# Altium footprint library bspd parts.PcbLib: 32 footprints (part 2 of 2)
Each footprint in its own frame and in the unit in brackets; x right, y up, seen from the top. Pads: shape width x height; smd on the part's side, far side on the other; paste and mask are expansions set on the pad; w line width, h text height; cw(c..) or ccw(c..) is an arc to the next point about the centre after c.
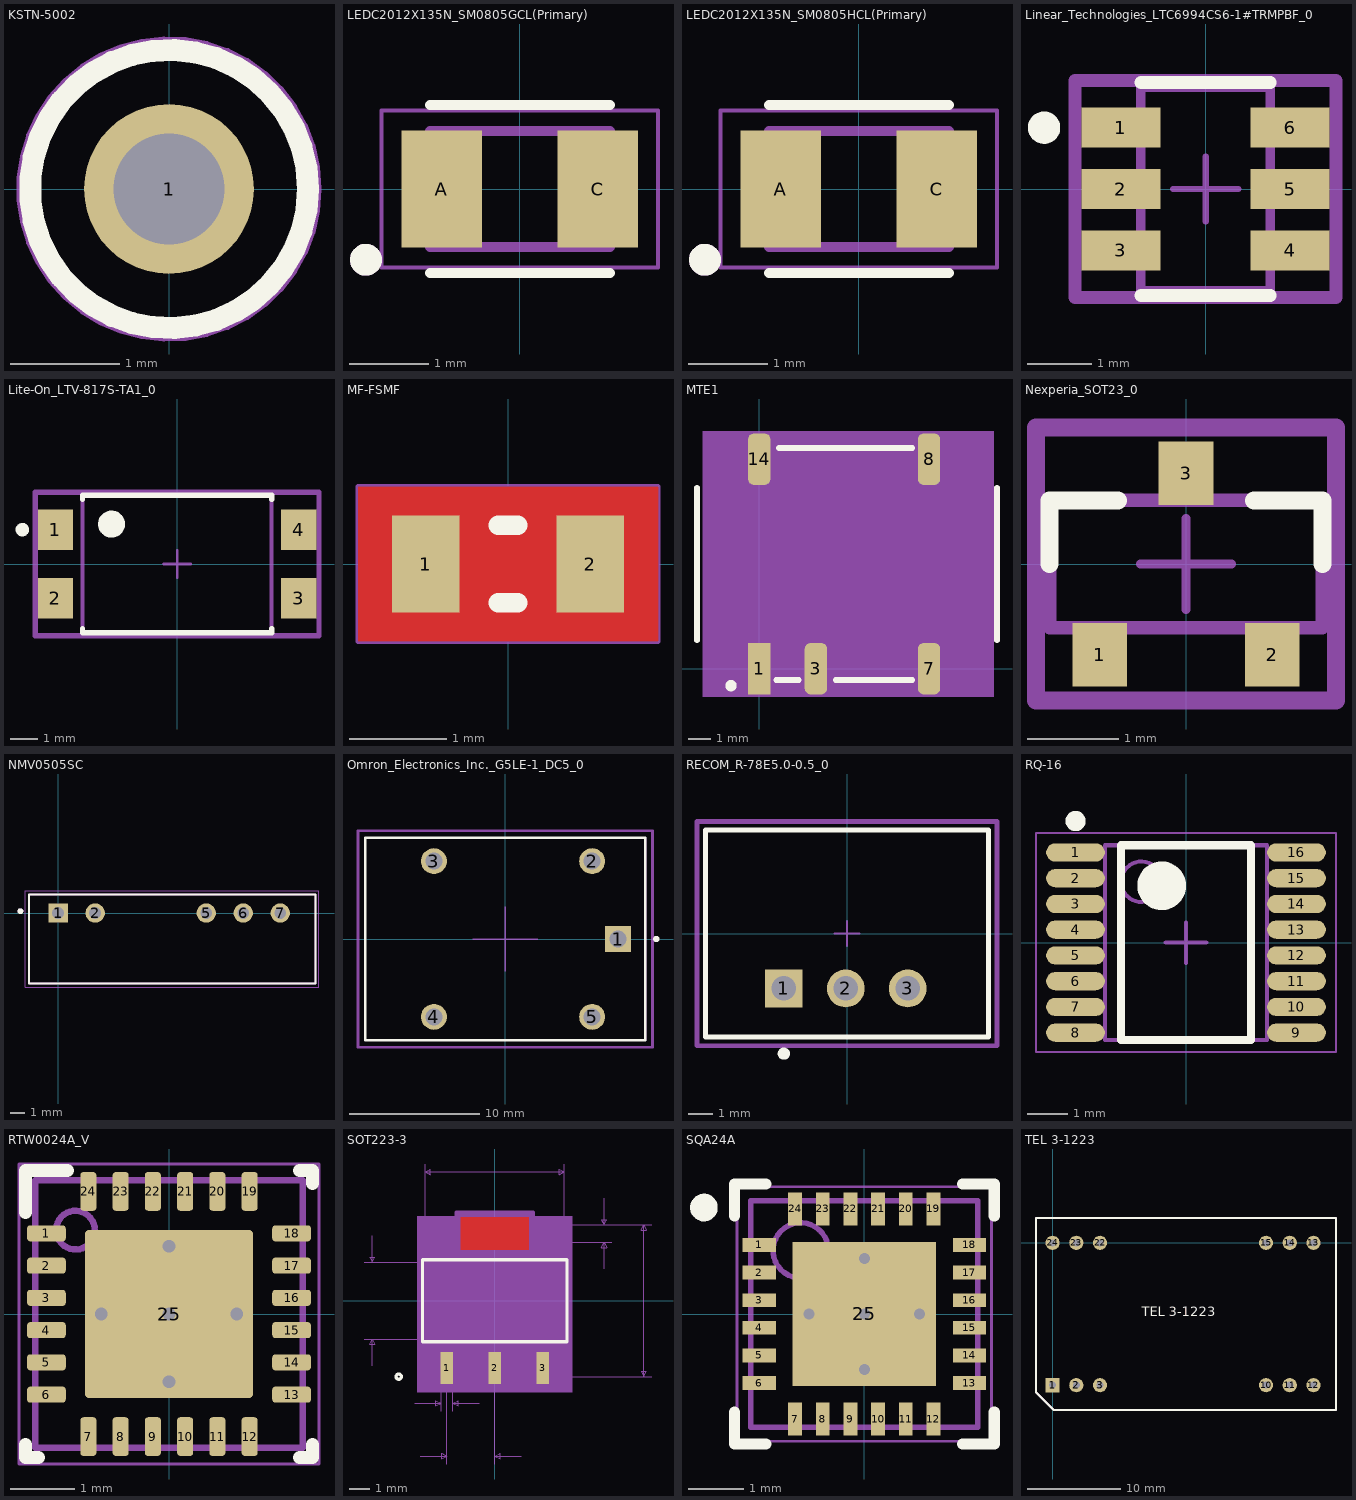
[diagram p1: the footprints below, top view; thin cyan lines are the x and y axes]

## KSTN-5002 [mm] "Test Point, Through Hole, Dia 2.54mm"
height 4.57
pads (1):
  round 1.55 hole 1.016: 1(0,0)
Top Overlay:
  circle w0.2: c0,0 r1.27
Mechanical 13:
  circle w0.1: c0,0 r1.27
Mechanical 15:
  circle w0.05: c0,0 r1.37
  lines w0.1: -0.5,0 0.5,0 ; 0,-0.5 0,0.5
3D body "Keystone_5002.stp": height 4.62, standoff -3, extent -1.254,-1.247 1.246,1.253

## LEDC2012X135N_SM0805GCL(Primary) [mm]
pads (2):
  rect 1.01x1.47 smd: A(-0.98,0) C(0.98,0)
Top Overlay:
  circle w0.2: c-1.932,-0.889 r0.1
  lines w0.127: -1.13,-1.055 1.13,-1.055 ; -1.13,1.055 1.13,1.055
Top 3D Body:
  circle w0.2: c-1.932,-0.889 r0.1
  circle w0.2: c-1.932,-0.889 r0.1
  lines w0.127: -1.13,-0.73 -1.13,0.73 ; -1.13,-0.73 1.13,-0.73 ; -1.13,-0.73 -1.13,0.73 ; -1.13,-0.73 1.13,-0.73 ; -1.13,0.73 1.13,0.73 ; -1.13,0.73 1.13,0.73 ; 1.13,-0.73 1.13,0.73 ; 1.13,-0.73 1.13,0.73
Bottom Component Outline:
  lines w0.05: -1.735,-0.985 1.735,-0.985 1.735,0.985 -1.735,0.985 -1.735,-0.985
3D body "SM0805GCL.STEP": height 1.12, standoff 0.03, extent -1.003,-0.622 1.003,0.622

## LEDC2012X135N_SM0805HCL(Primary) [mm]
pads (2):
  rect 1.01x1.47 smd: A(-0.98,0) C(0.98,0)
Top Overlay:
  circle w0.2: c-1.932,-0.889 r0.1
  lines w0.127: -1.13,-1.055 1.13,-1.055 ; -1.13,1.055 1.13,1.055
Top 3D Body:
  circle w0.2: c-1.932,-0.889 r0.1
  circle w0.2: c-1.932,-0.889 r0.1
  lines w0.127: -1.13,-0.73 -1.13,0.73 ; -1.13,-0.73 1.13,-0.73 ; -1.13,-0.73 -1.13,0.73 ; -1.13,-0.73 1.13,-0.73 ; -1.13,0.73 1.13,0.73 ; -1.13,0.73 1.13,0.73 ; 1.13,-0.73 1.13,0.73 ; 1.13,-0.73 1.13,0.73
Bottom Component Outline:
  lines w0.05: -1.735,-0.985 1.735,-0.985 1.735,0.985 -1.735,0.985 -1.735,-0.985
3D body "SM0805XXC.STEP": height 1.12, standoff 0.03, extent -1.003,-0.622 1.003,0.622

## Linear_Technologies_LTC6994CS6-1#TRMPBF_0 [mm]
pads (6):
  rect 1.22x0.62 smd paste+0 mask+0: 1(-1.31,0.95) 2(-1.31,0) 3(-1.31,-0.95) 4(1.31,-0.95) 5(1.31,0) 6(1.31,0.95)
Top Overlay:
  circle w0.25: c-2.5,0.95 r0.125
  lines w0.2: -1.002,-1.647 1.002,-1.647 ; -1.002,1.647 1.002,1.647
Top Component Outline:
  lines w0.15: -1.002,-1.577 -1.002,1.577 1.002,1.577 1.002,-1.577 -1.002,-1.577
Top Courtyard:
  lines w0.2: -2.02,-1.677 2.02,-1.677 2.02,1.677 -2.02,1.677 -2.02,-1.677
Mechanical 10:
  text ".Designator" at 0,0 h1
Mechanical 15:
  lines w0.1: -0.503,0 0.503,0 ; 0,-0.503 0,0.503
  lines w0.2: -2.02,-1.677 -2.02,1.677 2.02,1.677 2.02,-1.677 -2.02,-1.677
3D body "IC_Linear_Technologies_LTC6994CS6-1#TRMPBF_eec.STEP": height 0.96, standoff -0.04, extent -1.412,-1.443 1.412,1.457

## Lite-On_LTV-817S-TA1_0 [mm]
pads (4):
  rect 1.3x1.5 smd paste+0 mask+0: 1(-4.5,1.27) 2(-4.5,-1.27) 3(4.5,-1.27) 4(4.5,1.27)
Top Overlay:
  circle w0.25: c-5.725,1.27 r0.125
  circle w0.5: c-2.425,1.475 r0.25
  lines w0.2: -3.5,-2.395 -3.5,-2.55 3.5,-2.55 3.5,-2.395 ; -3.5,2.395 -3.5,2.55 3.5,2.55 3.5,2.395
Mechanical 10:
  lines w0.2: -5.25,-2.65 5.25,-2.65 5.25,2.65 -5.25,2.65 -5.25,-2.65
  text ".Designator" at 0,0 h1
Mechanical 12:
  lines w0.15: -3.5,-2.55 3.5,-2.55 3.5,2.55 -3.5,2.55 -3.5,-2.55
Mechanical 15:
  lines w0.1: -0.5,0 0.5,0 ; 0,-0.5 0,0.5
  lines w0.2: -5.25,-2.65 5.25,-2.65 5.25,2.65 -5.25,2.65 -5.25,-2.65
3D body "IC_Lite-On_LTV-817S-TA1_eec.STEP": height 0.25, standoff 0, extent -5.25,-2.65 5.25,2.65

## MF-FSMF [mm] "MF-FSMF Series - PTC Resettable Fuse"
height 0.65
pads (2):
  rect 0.7x1 smd: 1(-0.85,0) 2(0.85,0)
Top Layer:
  pour cut-out: -1.55,0.8 1.55,0.8 1.55,-0.8 -1.55,-0.8
Bottom Layer:
  pour cut-out: -1.55,0.8 1.55,0.8 1.55,-0.8 -1.55,-0.8
Top Overlay:
  lines w0.2: -0.1,-0.4 0.1,-0.4 ; -0.1,0.4 0.1,0.4
Top Assembly:
  lines w0.1: -0.925,-0.525 0.925,-0.525 0.925,0.525 -0.925,0.525 -0.925,-0.525
Top Courtyard:
  lines w0.05: -1.55,-0.8 1.55,-0.8 1.55,0.8 -1.55,0.8 -1.55,-0.8
  lines w0.1: -0.5,0 0.5,0 ; 0,-0.5 0,0.5
3D body "mf-fsmf010x.stp": height 0.48, standoff 0, extent -0.825,-0.425 0.825,0.425

## MTE1 [mm]
pads (5):
  rect 1x2.3 smd: 1(0,0)
  rrect50% 1x2.3 smd: 3(2.54,0) 7(7.62,0) 8(7.62,9.4) 14(0,9.4)
Top Overlay:
  circle w0.254: c-1.27,-0.762 r0.127
  lines w0.254: -2.794,1.27 -2.794,8.128 ; 0.762,-0.508 1.778,-0.508 ; 0.889,9.906 6.858,9.906 ; 3.429,-0.508 6.858,-0.508 ; 10.668,1.27 10.668,8.128
Top Courtyard:
  rectangle: -2.54,-1.27 10.541,10.668
3D body: height 3.52, standoff -3.52, extent 2.159,2.794 2.159,2.794
3D body "mps_dcdc_mte1s_mc_a.step": height 7.07, standoff 0, extent -2.54,-0.801 10.16,10.199

## Nexperia_SOT23_0 [mm]
pads (3):
  rect 0.6x0.7 smd paste-1000 mask+0: 1(-0.95,-1) 2(0.95,-1) 3(0,1)
Top Overlay:
  lines w0.2: -1.5,0 -1.5,0.7 -0.75,0.7 ; 0.75,0.7 1.5,0.7 1.5,0
Top Paste:
  rectangle: 0.7,-1.3 1.2,-0.7
  rectangle: -1.2,-1.3 -0.7,-0.7
  rectangle: -0.25,0.7 0.25,1.3
Mechanical 10:
  lines w0.2: -1.65,-1.5 -1.65,1.5 1.65,1.5 1.65,-1.5 -1.65,-1.5
  text ".Designator" at 0,0 h1
Mechanical 12:
  lines w0.15: -1.5,-0.7 -1.5,0.7 1.5,0.7 1.5,-0.7 -1.5,-0.7
Mechanical 15:
  lines w0.1: -0.5,0 0.5,0 ; 0,-0.5 0,0.5
  lines w0.2: -1.65,-1.5 -1.65,1.5 1.65,1.5 1.65,-1.5 -1.65,-1.5
3D body "Trans_Nexperia_MMBT3904,215_eec.STEP": height 0.25, standoff 0, extent -1.65,-1.5 1.65,1.5

## NMV0505SC [mm]
pads (5):
  rect 1.328x1.328 hole 0.82: 1(0,0)
  round 1.328 hole 0.82: 2(2.54,0) 5(10.16,0) 6(12.7,0) 7(15.24,0)
Top Overlay:
  circle w0.2: c-2.59,0.13 r0.1
  lines w0.127: -2,-4.826 -2,1.27 17.65,1.27 17.65,-4.826 -2,-4.826
Top 3D Body:
  circle w0.2: c-2.59,0.13 r0.1
  circle w0.2: c-2.59,0.13 r0.1
  lines w0.127: -2,-4.826 -2,1.27 ; -2,-4.826 17.65,-4.826 ; -2,-4.826 -2,1.27 ; -2,-4.826 17.65,-4.826 ; -2,1.27 17.65,1.27 ; -2,1.27 17.65,1.27 ; 17.65,-4.826 17.65,1.27 ; 17.65,-4.826 17.65,1.27
Bottom Component Outline:
  lines w0.05: -2.25,-5.08 -2.25,1.52 17.9,1.52 17.9,-5.08 -2.25,-5.08
3D body "mps_dcdc_nmv_sc_a.step": height 10.04, standoff -4.06, extent -1.88,-4.77 17.62,1.25

## Omron_Electronics_Inc._G5LE-1_DC5_0 [mm]
pads (5):
  rect 2x2 hole 1.3 paste-1000 mask+0: 1(8.7,0)
  round 2 hole 1.3 paste-1000 mask+0: 2(6.7,6) 3(-5.5,6) 4(-5.5,-6) 5(6.7,-6)
Top Overlay:
  circle w0.25: c11.65,0 r0.125
  lines w0.2: -10.8,-7.8 -10.8,7.8 10.8,7.8 10.8,-7.8 -10.8,-7.8
Mechanical 10:
  lines w0.2: -11.35,-8.35 -11.35,8.35 11.35,8.35 11.35,-8.35 -11.35,-8.35
  text ".Designator" at 0,0 h1
Mechanical 12:
  lines w0.15: -10.8,-7.8 -10.8,7.8 10.8,7.8 10.8,-7.8 -10.8,-7.8
Mechanical 15:
  lines w0.1: -2.505,0 2.505,0 ; 0,-2.505 0,2.505
  lines w0.2: -11.35,-8.35 -11.35,8.35 11.35,8.35 11.35,-8.35 -11.35,-8.35
3D body "3dmodel.step": height 0.25, standoff 0, extent -11.35,-8.35 11.35,8.35

## RECOM_R-78E5.0-0.5_0 [mm]
pads (3):
  rect 1.55x1.55 hole 1 paste-1000 mask+0: 1(-2.59,-2.25)
  round 1.55 hole 1 paste-1000 mask+0: 2(-0.05,-2.25) 3(2.49,-2.25)
Top Overlay:
  circle w0.25: c-2.59,-4.925 r0.125
  lines w0.2: -5.8,-4.25 -5.8,4.25 5.8,4.25 5.8,-4.25 -5.8,-4.25
Mechanical 10:
  lines w0.2: -6.15,-4.6 -6.15,4.6 6.15,4.6 6.15,-4.6 -6.15,-4.6
  text ".Designator" at 0,0 h1
Mechanical 12:
  lines w0.15: -5.8,-4.25 -5.8,4.25 5.8,4.25 5.8,-4.25 -5.8,-4.25
Mechanical 15:
  lines w0.1: -0.5,0 0.5,0 ; 0,-0.5 0,0.5
  lines w0.2: -6.15,-4.6 -6.15,4.6 6.15,4.6 6.15,-4.6 -6.15,-4.6
3D body "IC_RECOM_R-78E5.0-0.5_eec.STEP": height 10.77, standoff -2.51, extent -5.75,-4.174 5.75,3.376

## RQ-16 [mm] "SOP, 16-Leads, Body 4.90x3.91mm, Pitch 0.64mm, IPC Medium Density"
height 1.66
pads (16):
  oval 1.45x0.45 smd: 1(-2.725,2.222) 2(-2.725,1.587) 3(-2.725,0.953) 4(-2.725,0.318) 5(-2.725,-0.318) 6(-2.725,-0.953) 7(-2.725,-1.587) 8(-2.725,-2.222) 9(2.725,-2.222) 10(2.725,-1.587) 11(2.725,-0.953) 12(2.725,-0.318) 13(2.725,0.318) 14(2.725,0.953) 15(2.725,1.587) 16(2.725,2.222)
Top Overlay:
  circle w0.25: c-2.725,2.997 r0.125
  circle w0.6: c-0.6,1.4 r0.3
  lines w0.2: -1.6,-2.4 -1.6,2.4 1.6,2.4 1.6,-2.4 -1.6,-2.4
Top Assembly:
  circle w0.1: c-1.1,1.5 r0.5
  lines w0.1: -2,-2.4 -2,2.4 2,2.4 2,-2.4 -2,-2.4
Top Courtyard:
  lines w0.05: -3.7,-2.7 -3.7,2.7 3.7,2.7 3.7,-2.7 -3.7,-2.7
  lines w0.1: -0.5,0 0.5,0 ; 0,-0.5 0,0.5
3D body "RQ-16.step": height 1.65, standoff 0, extent -2.997,-2.4 2.997,2.4

## RTW0024A_V [mm] "QFN, 24-Leads, Body 4x4mm, Pitch 0.5mm, Thermal Pad 2.6x2.6mm, TI Recommended"
height 0.8
pads (25):
  rrect40% 0.6x0.25 smd: 1(-1.9,1.25) 2(-1.9,0.75) 3(-1.9,0.25) 4(-1.9,-0.25) 5(-1.9,-0.75) 6(-1.9,-1.25) 13(1.9,-1.25) 14(1.9,-0.75) 15(1.9,-0.25) 16(1.9,0.25) 17(1.9,0.75) 18(1.9,1.25)
  rrect40% 0.25x0.6 smd: 7(-1.25,-1.9) 8(-0.75,-1.9) 9(-0.25,-1.9) 10(0.25,-1.9) 11(0.75,-1.9) 12(1.25,-1.9) 19(1.25,1.9) 20(0.75,1.9) 21(0.25,1.9) 22(-0.25,1.9) 23(-0.75,1.9) 24(-1.25,1.9)
  rrect4% 2.6x2.6 smd paste-1.3: 25(0,0)
via 0,1.05 diameter 0.5 hole 0.2
via 1.05,0 diameter 0.5 hole 0.2
via -1.05,0 diameter 0.5 hole 0.2
via 0,0 diameter 0.5 hole 0.2
via 0,-1.05 diameter 0.5 hole 0.2
Top Overlay:
  lines w0.2: -2.225,-2.025 -2.225,-2.225 -2.025,-2.225 ; -2.225,1.575 -2.225,2.225 -1.575,2.225 ; 2.025,-2.225 2.225,-2.225 2.225,-2.025 ; 2.025,2.225 2.225,2.225 2.225,2.025
Top Paste:
  rectangle: 0.1,0.1 1.248,1.248
  region: -0.1,1.248 -1.248,1.248 -1.248,0.1 -0.1,0.1
  region: -0.1,-0.1 -1.248,-0.1 -1.248,-1.248 -0.1,-1.248
  rectangle: 0.1,-1.248 1.248,-0.1
Mechanical 1:
  text ".Designator" at -1.854,-0.508 h0.9
Mechanical 13:
  circle w0.1: c-1.45,1.3 r0.3
  lines w0.1: -2.075,-2.075 2.075,-2.075 2.075,2.075 -2.075,2.075 -2.075,-2.075
Mechanical 15:
  lines w0.05: -2.325,-2.325 -2.325,2.325 2.325,2.325 2.325,-2.325 -2.325,-2.325
  lines w0.1: -0.5,0 0.5,0 ; 0,-0.5 0,0.5
3D body "RTW0024A.stp": height 0.8, standoff 0, extent -2,-2 2,2

## SOT223-3 [mil]
pads (3):
  rect 24x61 smd: 1(-90.5,-127) 2(0,-127) 3(90.5,-127)
Top Layer:
  region: 64,96.5 64,157.5 -64,157.5 -64,96.5
Top Overlay:
  circle w6: c-181.5,-143.5 r5
  lines w6: -136.5,-77.5 -136.5,77.5 136.5,77.5 136.5,-77.5 -136.5,-77.5
Top Paste:
  region: 64,96.5 64,157.5 -64,157.5 -64,96.5
Top Solder:
  region: 65,82.5 65,171.5 -65,171.5 -65,82.5
Top Assembly:
  circle w0: c-121.5,-62.5 r5
  lines w1: -131.5,-72.5 -131.5,72.5 131.5,72.5 131.5,-72.5 -131.5,-72.5 ; -101.5,-143.5 -79.5,-143.5 -79.5,-72.5 -101.5,-72.5 -101.5,-143.5 ; -63,72.5 -63,143.5 63,143.5 63,72.5 -63,72.5 ; -11,-143.5 11,-143.5 11,-72.5 -11,-72.5 -11,-143.5 ; 79.5,-143.5 101.5,-143.5 101.5,-72.5 79.5,-72.5 79.5,-143.5
Top Component Outline:
  region: -141.5,-82.5 -141.5,82.5 -73,82.5 -73,167.5 73,167.5 73,82.5 141.5,82.5 141.5,-82.5 111.5,-82.5 111.5,-167.5 -111.5,-167.5 -111.5,-82.5
  lines w6: -141.5,-82.5 -111.5,-82.5 -111.5,-167.5 111.5,-167.5 111.5,-82.5 141.5,-82.5 141.5,82.5 73,82.5 73,167.5 -73,167.5 -73,82.5 -141.5,82.5 -141.5,-82.5
Top Courtyard:
  region: -146.5,159.5 146.5,159.5 146.5,-172.5 -146.5,-172.5
Dimensions:
  lines w1: -246.5,-72.5 0,-72.5 ; -246.5,72.5 0,72.5 ; -231.5,-122.5 -231.5,-72.5 ; -231.5,122.5 -231.5,72.5 ; -151.5,-193.5 -101.5,-193.5 ; -140.5,-293.5 -90.5,-293.5 ; -131.5,72.5 -131.5,258.5 ; -101.5,-208.5 -101.5,-143.5 ; -90.5,-308.5 -90.5,-143.5 ; -79.5,-208.5 -79.5,-143.5 ; -29.5,-193.5 -79.5,-193.5 ; 0,-308.5 0,-143.5 296.5,-143.5 ; 0,110.5 221.5,110.5 ; 50,-293.5 0,-293.5 ; 131.5,72.5 131.5,258.5 ; 206.5,60.5 206.5,110.5 ; 206.5,193.5 206.5,143.5 ; 221.5,143.5 0,143.5 296.5,143.5 ; -231.5,-72.5 -226.5,-82.5 -236.5,-82.5 -231.5,-72.5 ; -231.5,72.5 -226.5,82.5 -236.5,82.5 -231.5,72.5 ; -131.5,243.5 -121.5,238.5 -121.5,248.5 -131.5,243.5 ; -131.5,243.5 131.5,243.5 ; -101.5,-193.5 -111.5,-198.5 -111.5,-188.5 -101.5,-193.5 ; -90.5,-293.5 -100.5,-298.5 -100.5,-288.5 -90.5,-293.5 ; -79.5,-193.5 -69.5,-198.5 -69.5,-188.5 -79.5,-193.5 ; 0,-293.5 10,-298.5 10,-288.5 0,-293.5 ; 131.5,243.5 121.5,238.5 121.5,248.5 131.5,243.5 ; 206.5,110.5 211.5,100.5 201.5,100.5 206.5,110.5 ; 206.5,143.5 211.5,153.5 201.5,153.5 206.5,143.5 ; 281.5,-143.5 286.5,-133.5 276.5,-133.5 281.5,-143.5 ; 281.5,-143.5 281.5,143.5 ; 281.5,143.5 286.5,133.5 276.5,133.5 281.5,143.5
  text "0.145in/3.683mm" at -439,-12.5 h25
  text "0.263in/6.68mm" at -87.5,263.5 h25
  text "0.022in/0.559mm" at -184.25,-238.5 h25
  text "0.09in/2.299mm" at -132.75,-338.5 h25
  text "0.033in/0.838mm" at 226.5,114.5 h25
  text "0.287in/7.29mm" at 301.5,-12.5 h25
  text "Alt 2 Padstyle: OX90Y60D30P" at -337.5,-557.5 h50
  text "Alt 1 Padstyle: OX60Y90D30P" at -337.5,-507.5 h50
  text "Default Pin Padstyle: RX24Y61D0T" at -400,-457.5 h50
3D body: height 10, standoff 0, extent 0,0 10,10
3D body "SOT223-3.step": height 68.11, standoff 0, extent -131.49,-143.5 131.5,143.51

## SQA24A [mm] "QFN, 24-Leads, Body 4x4mm, Pitch 0.5mm, NSC Recommended"
height 0.8
pads (25):
  rect 0.6x0.25 smd paste-0.125 mask+0.051: 1(-1.9,1.25) 2(-1.9,0.75) 3(-1.9,0.25) 4(-1.9,-0.25) 5(-1.9,-0.75) 6(-1.9,-1.25) 13(1.9,-1.25) 14(1.9,-0.75) 15(1.9,-0.25) 16(1.9,0.25) 17(1.9,0.75) 18(1.9,1.25)
  rect 0.25x0.6 smd paste-0.125 mask+0.051: 7(-1.25,-1.9) 8(-0.75,-1.9) 9(-0.25,-1.9) 10(0.25,-1.9) 11(0.75,-1.9) 12(1.25,-1.9) 19(1.25,1.9) 20(0.75,1.9) 21(0.25,1.9) 22(-0.25,1.9) 23(-0.75,1.9) 24(-1.25,1.9)
  rect 2.6x2.6 smd paste-1.3 mask+0.051: 25(0,0)
via 0,0 diameter 0.5 hole 0.2
via 1,0 diameter 0.5 hole 0.2
via -1,0 diameter 0.5 hole 0.2
via 0,1 diameter 0.5 hole 0.2
via 0,-1 diameter 0.5 hole 0.2
Top Overlay:
  circle w0.25: c-2.9,1.925 r0.125
  lines w0.2: -2.35,-1.775 -2.35,-2.35 -1.775,-2.35 ; -2.35,1.775 -2.35,2.35 -1.775,2.35 ; 1.775,-2.35 2.35,-2.35 2.35,-1.775 ; 1.775,2.35 2.35,2.35 2.35,1.775
Top Paste:
  region: 1.125,2.4 1.125,1.7 1.375,1.7 1.375,2.4
  region: 0.625,2.4 0.625,1.7 0.875,1.7 0.875,2.4
  region: 0.125,2.4 0.125,1.7 0.375,1.7 0.375,2.4
  region: -0.375,2.4 -0.375,1.7 -0.125,1.7 -0.125,2.4
  region: -0.875,2.4 -0.875,1.7 -0.625,1.7 -0.625,2.4
  region: -1.375,2.4 -1.375,1.7 -1.125,1.7 -1.125,2.4
  region: 2.4,-1.125 1.7,-1.125 1.7,-1.375 2.4,-1.375
  region: 2.4,-0.625 1.7,-0.625 1.7,-0.875 2.4,-0.875
  region: 2.4,-0.125 1.7,-0.125 1.7,-0.375 2.4,-0.375
  region: 2.4,0.375 1.7,0.375 1.7,0.125 2.4,0.125
  region: 2.4,0.875 1.7,0.875 1.7,0.625 2.4,0.625
  region: 2.4,1.375 1.7,1.375 1.7,1.125 2.4,1.125
  region: -1.125,-2.4 -1.125,-1.7 -1.375,-1.7 -1.375,-2.4
  region: -0.625,-2.4 -0.625,-1.7 -0.875,-1.7 -0.875,-2.4
  region: -0.125,-2.4 -0.125,-1.7 -0.375,-1.7 -0.375,-2.4
  region: 0.375,-2.4 0.375,-1.7 0.125,-1.7 0.125,-2.4
  region: 0.875,-2.4 0.875,-1.7 0.625,-1.7 0.625,-2.4
  region: 1.375,-2.4 1.375,-1.7 1.125,-1.7 1.125,-2.4
  rectangle: -2.4,-1.375 -1.7,-1.125
  rectangle: -2.4,-0.875 -1.7,-0.625
  rectangle: -2.4,-0.375 -1.7,-0.125
  rectangle: -2.4,0.125 -1.7,0.375
  rectangle: -2.4,0.625 -1.7,0.875
  rectangle: -2.4,1.125 -1.7,1.375
  rectangle: 0.1,-1.2 1.2,-0.1
  region: -0.1,-0.1 -1.2,-0.1 -1.2,-1.2 -0.1,-1.2
  region: -0.1,1.2 -1.2,1.2 -1.2,0.1 -0.1,0.1
  rectangle: 0.1,0.1 1.2,1.2
Mechanical 13:
  circle w0.1: c-1.15,1.15 r0.5
  lines w0.1: -2.05,-2.05 -2.05,2.05 2.05,2.05 2.05,-2.05 -2.05,-2.05
Mechanical 15:
  lines w0.05: -2.3,-2.3 -2.3,2.3 2.3,2.3 2.3,-2.3 -2.3,-2.3
  lines w0.1: -0.5,0 0.5,0 ; 0,-0.5 0,0.5
3D body: height 0.8, standoff 0, extent -2.05,-2.05 2.05,2.05

## TEL 3-1223 [mil]
pads (12):
  rect 60x60 hole 30: 1(0,-600)
  round 60 hole 30: 2(100,-600) 3(200,-600) 10(900,-600) 11(1000,-600) 12(1100,-600) 13(1100,0) 14(1000,0) 15(900,0) 22(200,0) 23(100,0) 24(0,0)
Top Overlay:
  lines w10: -70,-630 -70,105 1195,105 1195,-705 5,-705 -70,-630
  text "TEL 3-1223" at 375,-310 h40
Top Component Outline:
  lines w10: -70,-630 5,-705 1195,-705 1195,105 -70,105 -70,-630
3D body "tel3.STEP": height 402, standoff -178.71, extent -60,-697.28 1188.03,98